# Altium schematic symbol library Tactile_SPST_2Pin_Holder.Schlib: 1 symbol
Pins are listed as number, name and electrical type; pins without a type are passive.

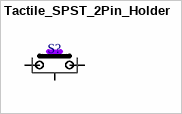
[diagram p0: symbol Tactile_SPST_2Pin_Holder]

## Tactile_SPST_2Pin_Holder
designator S?
2 Pin SPST Tactile Switch + Holder
pins: 1, 2, 3